# Altium schematic symbol library kmilo17pet-NSC_LDO.SchLib: 2675 symbols (part 19 of 65)
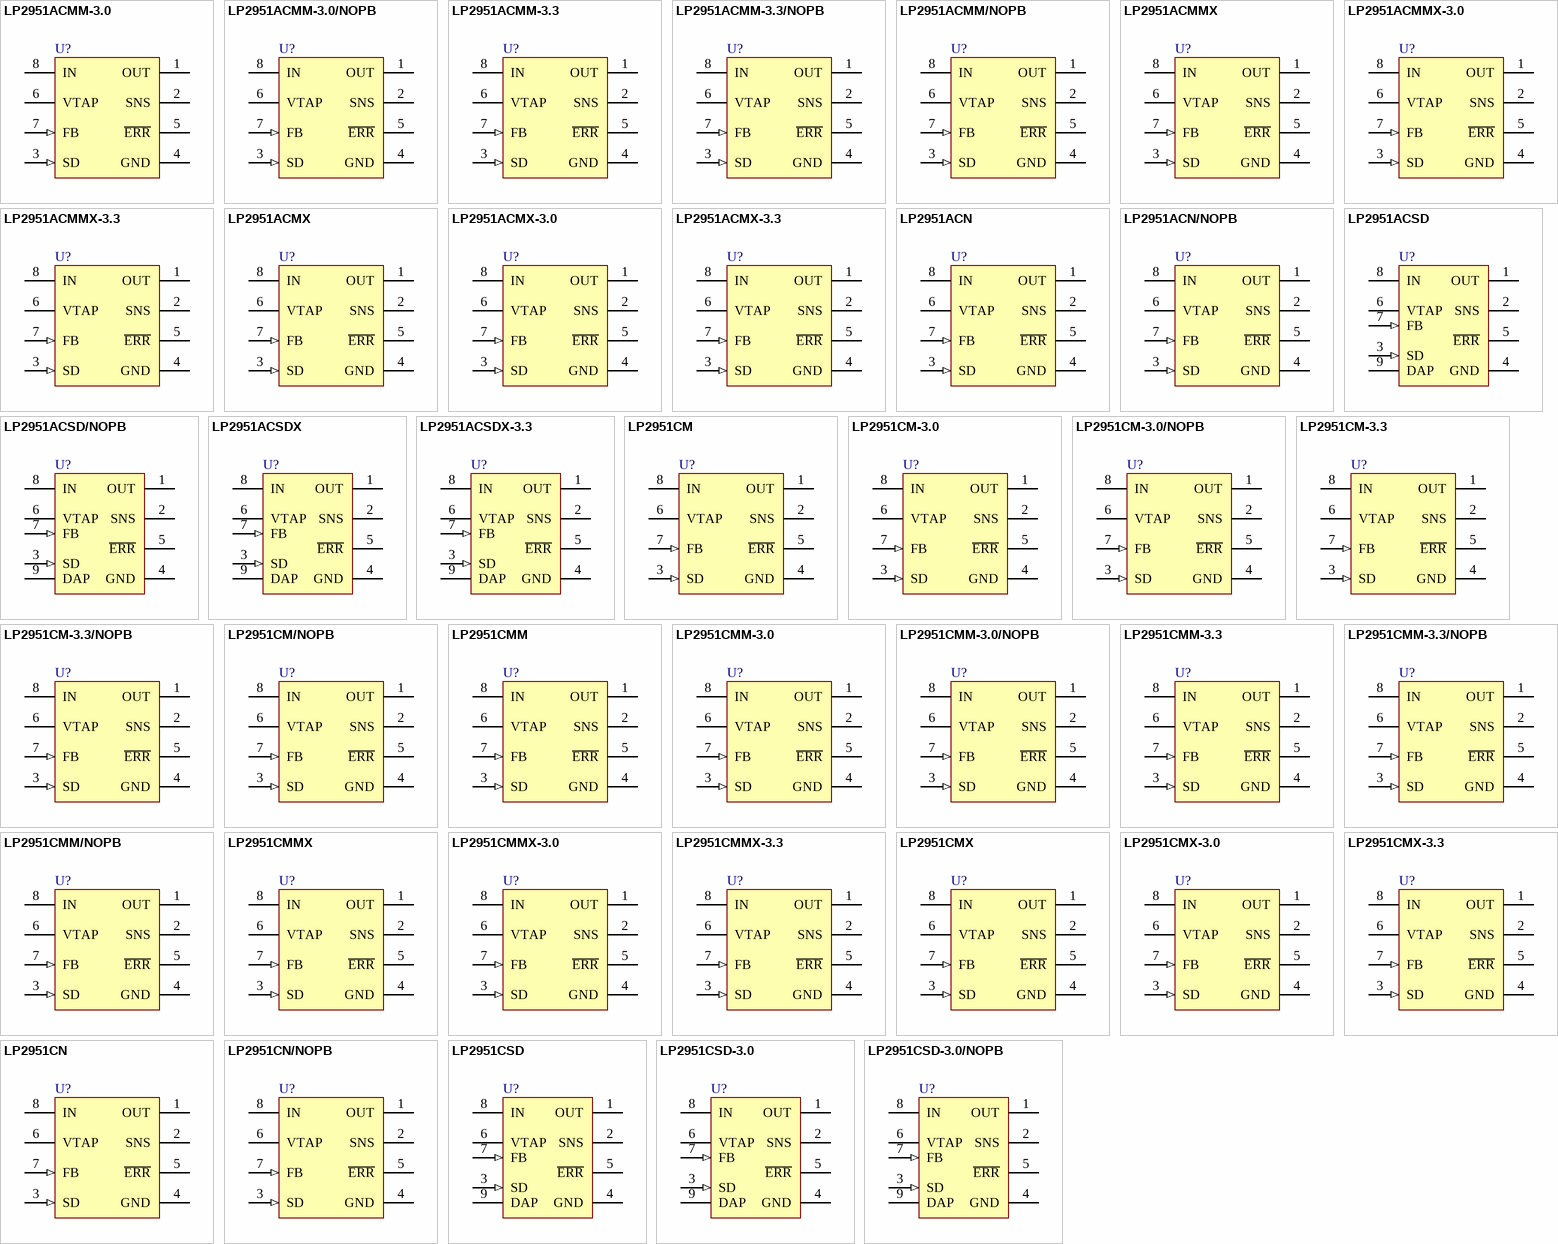
[diagram p85: symbols LP2951ACMM-3.0 to LP2951CSD-3.0/NOPB]

## LP2951CM-3.3/NOPB
designator U?
Series of Adjustable Micropower Voltage Regulators, 8-pin Narrow SOIC, Pb-Free; PartNumber: LP2951CM-3.3/NOPB; Manufacturer: National Semiconductor; PackageTopMarking: NSZXTT*2951C*M33DD; PowerWise: N; CompType: LDO IC; High-Reliability: Y; DatasheetVersion: Jun-2009; PackageVersion: revM, May-2009; PackageReference: M08A; PackageDescription: SOIC Narrow, 4.9 x 3.9 x 1.45mm, 8 Lead, 1.27mm Pitch; RoHS: Y; PinCount: 8; Code_JEDEC: MS-012-AA; Code_IPC: SOIC127P600-8; ComponentLink1Description: Manufacturer URL; ComponentLink1URL: http://www.national.com/; ComponentLink2Description: LP2951 Datasheet; ComponentLink2URL: http://www.national.com/ds/LP/LP2951.pdf; ComponentLink3Description: LP2951 Web Page; ComponentLink3URL: http://www.national.com/pf/LP/LP2951.html; ComponentLink4Description: M08A Package Page; ComponentLink4URL: http://www.national.com/packaging/folders/m08a.html
footprint M08A_N (SOIC, 8-Leads, Body 4.9x3.9mm, Pitch 1.27mm, IPC Medium Density)
footprint M08A_L (SOIC, 8-Leads, Body 4.9x3.9mm, Pitch 1.27mm, IPC High Density)
footprint M08A_M (SOIC, 8-Leads, Body 4.9x3.9mm, Pitch 1.27mm, IPC Low Density)
pins: 1 OUT (power), 2 SNS, 3 SD (in), 4 GND (power), 5 ~{ERR} (oc), 6 VTAP, 7 FB (in), 8 IN (power)

## LP2951CM/NOPB
designator U?
Series of Adjustable Micropower Voltage Regulators, 8-pin Narrow SOIC, Pb-Free; PartNumber: LP2951CM/NOPB; Manufacturer: National Semiconductor; PackageTopMarking: NSZXTT*2951*CMDD; PowerWise: N; CompType: LDO IC; High-Reliability: Y; DatasheetVersion: Jun-2009; PackageVersion: revM, May-2009; PackageReference: M08A; PackageDescription: SOIC Narrow, 4.9 x 3.9 x 1.45mm, 8 Lead, 1.27mm Pitch; RoHS: Y; PinCount: 8; Code_JEDEC: MS-012-AA; Code_IPC: SOIC127P600-8; ComponentLink1Description: Manufacturer URL; ComponentLink1URL: http://www.national.com/; ComponentLink2Description: LP2951 Datasheet; ComponentLink2URL: http://www.national.com/ds/LP/LP2951.pdf; ComponentLink3Description: LP2951 Web Page; ComponentLink3URL: http://www.national.com/pf/LP/LP2951.html; ComponentLink4Description: M08A Package Page; ComponentLink4URL: http://www.national.com/packaging/folders/m08a.html
footprint M08A_N (SOIC, 8-Leads, Body 4.9x3.9mm, Pitch 1.27mm, IPC Medium Density)
footprint M08A_L (SOIC, 8-Leads, Body 4.9x3.9mm, Pitch 1.27mm, IPC High Density)
footprint M08A_M (SOIC, 8-Leads, Body 4.9x3.9mm, Pitch 1.27mm, IPC Low Density)
pins: 1 OUT (power), 2 SNS, 3 SD (in), 4 GND (power), 5 ~{ERR} (oc), 6 VTAP, 7 FB (in), 8 IN (power)

## LP2951CMM
designator U?
Series of Adjustable Micropower Voltage Regulators, 8-pin Mini SOIC; PartNumber: LP2951CMM; Manufacturer: National Semiconductor; PackageTopMarking: ZXTT*L0DB; PowerWise: N; CompType: LDO IC; High-Reliability: Y; DatasheetVersion: Jun-2009; PackageVersion: revF, Apr-2008; PackageReference: MUA08A; PackageDescription: MINI SOIC, .118 x .118 x .034in, 8 Lead, .0256in Pitch; RoHS: N; PinCount: 8; Code_JEDEC: MO-187-AA; ComponentLink1Description: Manufacturer URL; ComponentLink1URL: http://www.national.com/; ComponentLink2Description: LP2951 Datasheet; ComponentLink2URL: http://www.national.com/ds/LP/LP2951.pdf; ComponentLink3Description: LP2951 Web Page; ComponentLink3URL: http://www.national.com/pf/LP/LP2951.html; ComponentLink4Description: MUA08A Package Page; ComponentLink4URL: http://www.national.com/packaging/folders/mua08a.html
footprint MUA08A_N (TSOP, 8-Leads, Body 3x3mm, Pitch 0.65mm, IPC Medium Density)
footprint MUA08A_L (TSOP, 8-Leads, Body 3x3mm, Pitch 0.65mm, IPC High Density)
footprint MUA08A_M (TSOP, 8-Leads, Body 3x3mm, Pitch 0.65mm, IPC Low Density)
pins: 1 OUT (power), 2 SNS, 3 SD (in), 4 GND (power), 5 ~{ERR} (oc), 6 VTAP, 7 FB (in), 8 IN (power)

## LP2951CMM-3.0
designator U?
Series of Adjustable Micropower Voltage Regulators, 8-pin Mini SOIC; PartNumber: LP2951CMM-3.0; Manufacturer: National Semiconductor; PackageTopMarking: ZXTT*L0BB; PowerWise: N; CompType: LDO IC; High-Reliability: Y; DatasheetVersion: Jun-2009; PackageVersion: revF, Apr-2008; PackageReference: MUA08A; PackageDescription: MINI SOIC, .118 x .118 x .034in, 8 Lead, .0256in Pitch; RoHS: N; PinCount: 8; Code_JEDEC: MO-187-AA; ComponentLink1Description: Manufacturer URL; ComponentLink1URL: http://www.national.com/; ComponentLink2Description: LP2951 Datasheet; ComponentLink2URL: http://www.national.com/ds/LP/LP2951.pdf; ComponentLink3Description: LP2951 Web Page; ComponentLink3URL: http://www.national.com/pf/LP/LP2951.html; ComponentLink4Description: MUA08A Package Page; ComponentLink4URL: http://www.national.com/packaging/folders/mua08a.html
footprint MUA08A_N (TSOP, 8-Leads, Body 3x3mm, Pitch 0.65mm, IPC Medium Density)
footprint MUA08A_L (TSOP, 8-Leads, Body 3x3mm, Pitch 0.65mm, IPC High Density)
footprint MUA08A_M (TSOP, 8-Leads, Body 3x3mm, Pitch 0.65mm, IPC Low Density)
pins: 1 OUT (power), 2 SNS, 3 SD (in), 4 GND (power), 5 ~{ERR} (oc), 6 VTAP, 7 FB (in), 8 IN (power)

## LP2951CMM-3.0/NOPB
designator U?
Series of Adjustable Micropower Voltage Regulators, 8-pin Mini SOIC, Pb-Free; PartNumber: LP2951CMM-3.0/NOPB; Manufacturer: National Semiconductor; PackageTopMarking: ZXTT*L0BB; PowerWise: N; CompType: LDO IC; High-Reliability: Y; DatasheetVersion: Jun-2009; PackageVersion: revF, Apr-2008; PackageReference: MUA08A; PackageDescription: MINI SOIC, .118 x .118 x .034in, 8 Lead, .0256in Pitch; RoHS: Y; PinCount: 8; Code_JEDEC: MO-187-AA; ComponentLink1Description: Manufacturer URL; ComponentLink1URL: http://www.national.com/; ComponentLink2Description: LP2951 Datasheet; ComponentLink2URL: http://www.national.com/ds/LP/LP2951.pdf; ComponentLink3Description: LP2951 Web Page; ComponentLink3URL: http://www.national.com/pf/LP/LP2951.html; ComponentLink4Description: MUA08A Package Page; ComponentLink4URL: http://www.national.com/packaging/folders/mua08a.html
footprint MUA08A_N (TSOP, 8-Leads, Body 3x3mm, Pitch 0.65mm, IPC Medium Density)
footprint MUA08A_L (TSOP, 8-Leads, Body 3x3mm, Pitch 0.65mm, IPC High Density)
footprint MUA08A_M (TSOP, 8-Leads, Body 3x3mm, Pitch 0.65mm, IPC Low Density)
pins: 1 OUT (power), 2 SNS, 3 SD (in), 4 GND (power), 5 ~{ERR} (oc), 6 VTAP, 7 FB (in), 8 IN (power)

## LP2951CMM-3.3
designator U?
Series of Adjustable Micropower Voltage Regulators, 8-pin Mini SOIC; PartNumber: LP2951CMM-3.3; Manufacturer: National Semiconductor; PackageTopMarking: ZXTT*L0CB; PowerWise: N; CompType: LDO IC; High-Reliability: Y; DatasheetVersion: Jun-2009; PackageVersion: revF, Apr-2008; PackageReference: MUA08A; PackageDescription: MINI SOIC, .118 x .118 x .034in, 8 Lead, .0256in Pitch; RoHS: N; PinCount: 8; Code_JEDEC: MO-187-AA; ComponentLink1Description: Manufacturer URL; ComponentLink1URL: http://www.national.com/; ComponentLink2Description: LP2951 Datasheet; ComponentLink2URL: http://www.national.com/ds/LP/LP2951.pdf; ComponentLink3Description: LP2951 Web Page; ComponentLink3URL: http://www.national.com/pf/LP/LP2951.html; ComponentLink4Description: MUA08A Package Page; ComponentLink4URL: http://www.national.com/packaging/folders/mua08a.html
footprint MUA08A_N (TSOP, 8-Leads, Body 3x3mm, Pitch 0.65mm, IPC Medium Density)
footprint MUA08A_L (TSOP, 8-Leads, Body 3x3mm, Pitch 0.65mm, IPC High Density)
footprint MUA08A_M (TSOP, 8-Leads, Body 3x3mm, Pitch 0.65mm, IPC Low Density)
pins: 1 OUT (power), 2 SNS, 3 SD (in), 4 GND (power), 5 ~{ERR} (oc), 6 VTAP, 7 FB (in), 8 IN (power)

## LP2951CMM-3.3/NOPB
designator U?
Series of Adjustable Micropower Voltage Regulators, 8-pin Mini SOIC, Pb-Free; PartNumber: LP2951CMM-3.3/NOPB; Manufacturer: National Semiconductor; PackageTopMarking: ZXTT*L0CB; PowerWise: N; CompType: LDO IC; High-Reliability: Y; DatasheetVersion: Jun-2009; PackageVersion: revF, Apr-2008; PackageReference: MUA08A; PackageDescription: MINI SOIC, .118 x .118 x .034in, 8 Lead, .0256in Pitch; RoHS: Y; PinCount: 8; Code_JEDEC: MO-187-AA; ComponentLink1Description: Manufacturer URL; ComponentLink1URL: http://www.national.com/; ComponentLink2Description: LP2951 Datasheet; ComponentLink2URL: http://www.national.com/ds/LP/LP2951.pdf; ComponentLink3Description: LP2951 Web Page; ComponentLink3URL: http://www.national.com/pf/LP/LP2951.html; ComponentLink4Description: MUA08A Package Page; ComponentLink4URL: http://www.national.com/packaging/folders/mua08a.html
footprint MUA08A_N (TSOP, 8-Leads, Body 3x3mm, Pitch 0.65mm, IPC Medium Density)
footprint MUA08A_L (TSOP, 8-Leads, Body 3x3mm, Pitch 0.65mm, IPC High Density)
footprint MUA08A_M (TSOP, 8-Leads, Body 3x3mm, Pitch 0.65mm, IPC Low Density)
pins: 1 OUT (power), 2 SNS, 3 SD (in), 4 GND (power), 5 ~{ERR} (oc), 6 VTAP, 7 FB (in), 8 IN (power)

## LP2951CMM/NOPB
designator U?
Series of Adjustable Micropower Voltage Regulators, 8-pin Mini SOIC, Pb-Free; PartNumber: LP2951CMM/NOPB; Manufacturer: National Semiconductor; PackageTopMarking: ZXTT*L0DB; PowerWise: N; CompType: LDO IC; High-Reliability: Y; DatasheetVersion: Jun-2009; PackageVersion: revF, Apr-2008; PackageReference: MUA08A; PackageDescription: MINI SOIC, .118 x .118 x .034in, 8 Lead, .0256in Pitch; RoHS: Y; PinCount: 8; Code_JEDEC: MO-187-AA; ComponentLink1Description: Manufacturer URL; ComponentLink1URL: http://www.national.com/; ComponentLink2Description: LP2951 Datasheet; ComponentLink2URL: http://www.national.com/ds/LP/LP2951.pdf; ComponentLink3Description: LP2951 Web Page; ComponentLink3URL: http://www.national.com/pf/LP/LP2951.html; ComponentLink4Description: MUA08A Package Page; ComponentLink4URL: http://www.national.com/packaging/folders/mua08a.html
footprint MUA08A_N (TSOP, 8-Leads, Body 3x3mm, Pitch 0.65mm, IPC Medium Density)
footprint MUA08A_L (TSOP, 8-Leads, Body 3x3mm, Pitch 0.65mm, IPC High Density)
footprint MUA08A_M (TSOP, 8-Leads, Body 3x3mm, Pitch 0.65mm, IPC Low Density)
pins: 1 OUT (power), 2 SNS, 3 SD (in), 4 GND (power), 5 ~{ERR} (oc), 6 VTAP, 7 FB (in), 8 IN (power)

## LP2951CMMX
designator U?
Series of Adjustable Micropower Voltage Regulators, 8-pin Mini SOIC; PartNumber: LP2951CMMX; Manufacturer: National Semiconductor; PackageTopMarking: ZXTT*L0DB; PowerWise: N; CompType: LDO IC; High-Reliability: Y; DatasheetVersion: Jun-2009; PackageVersion: revF, Apr-2008; PackageReference: MUA08A; PackageDescription: MINI SOIC, .118 x .118 x .034in, 8 Lead, .0256in Pitch; RoHS: N; PinCount: 8; Code_JEDEC: MO-187-AA; ComponentLink1Description: Manufacturer URL; ComponentLink1URL: http://www.national.com/; ComponentLink2Description: LP2951 Datasheet; ComponentLink2URL: http://www.national.com/ds/LP/LP2951.pdf; ComponentLink3Description: LP2951 Web Page; ComponentLink3URL: http://www.national.com/pf/LP/LP2951.html; ComponentLink4Description: MUA08A Package Page; ComponentLink4URL: http://www.national.com/packaging/folders/mua08a.html
footprint MUA08A_N (TSOP, 8-Leads, Body 3x3mm, Pitch 0.65mm, IPC Medium Density)
footprint MUA08A_L (TSOP, 8-Leads, Body 3x3mm, Pitch 0.65mm, IPC High Density)
footprint MUA08A_M (TSOP, 8-Leads, Body 3x3mm, Pitch 0.65mm, IPC Low Density)
pins: 1 OUT (power), 2 SNS, 3 SD (in), 4 GND (power), 5 ~{ERR} (oc), 6 VTAP, 7 FB (in), 8 IN (power)

## LP2951CMMX-3.0
designator U?
Series of Adjustable Micropower Voltage Regulators, 8-pin Mini SOIC; PartNumber: LP2951CMMX-3.0; Manufacturer: National Semiconductor; PackageTopMarking: ZXTT*L0BB; PowerWise: N; CompType: LDO IC; High-Reliability: Y; DatasheetVersion: Jun-2009; PackageVersion: revF, Apr-2008; PackageReference: MUA08A; PackageDescription: MINI SOIC, .118 x .118 x .034in, 8 Lead, .0256in Pitch; RoHS: N; PinCount: 8; Code_JEDEC: MO-187-AA; ComponentLink1Description: Manufacturer URL; ComponentLink1URL: http://www.national.com/; ComponentLink2Description: LP2951 Datasheet; ComponentLink2URL: http://www.national.com/ds/LP/LP2951.pdf; ComponentLink3Description: LP2951 Web Page; ComponentLink3URL: http://www.national.com/pf/LP/LP2951.html; ComponentLink4Description: MUA08A Package Page; ComponentLink4URL: http://www.national.com/packaging/folders/mua08a.html
footprint MUA08A_N (TSOP, 8-Leads, Body 3x3mm, Pitch 0.65mm, IPC Medium Density)
footprint MUA08A_L (TSOP, 8-Leads, Body 3x3mm, Pitch 0.65mm, IPC High Density)
footprint MUA08A_M (TSOP, 8-Leads, Body 3x3mm, Pitch 0.65mm, IPC Low Density)
pins: 1 OUT (power), 2 SNS, 3 SD (in), 4 GND (power), 5 ~{ERR} (oc), 6 VTAP, 7 FB (in), 8 IN (power)

## LP2951CMMX-3.3
designator U?
Series of Adjustable Micropower Voltage Regulators, 8-pin Mini SOIC; PartNumber: LP2951CMMX-3.3; Manufacturer: National Semiconductor; PackageTopMarking: ZXTT*L0CB; PowerWise: N; CompType: LDO IC; High-Reliability: Y; DatasheetVersion: Jun-2009; PackageVersion: revF, Apr-2008; PackageReference: MUA08A; PackageDescription: MINI SOIC, .118 x .118 x .034in, 8 Lead, .0256in Pitch; RoHS: N; PinCount: 8; Code_JEDEC: MO-187-AA; ComponentLink1Description: Manufacturer URL; ComponentLink1URL: http://www.national.com/; ComponentLink2Description: LP2951 Datasheet; ComponentLink2URL: http://www.national.com/ds/LP/LP2951.pdf; ComponentLink3Description: LP2951 Web Page; ComponentLink3URL: http://www.national.com/pf/LP/LP2951.html; ComponentLink4Description: MUA08A Package Page; ComponentLink4URL: http://www.national.com/packaging/folders/mua08a.html
footprint MUA08A_N (TSOP, 8-Leads, Body 3x3mm, Pitch 0.65mm, IPC Medium Density)
footprint MUA08A_L (TSOP, 8-Leads, Body 3x3mm, Pitch 0.65mm, IPC High Density)
footprint MUA08A_M (TSOP, 8-Leads, Body 3x3mm, Pitch 0.65mm, IPC Low Density)
pins: 1 OUT (power), 2 SNS, 3 SD (in), 4 GND (power), 5 ~{ERR} (oc), 6 VTAP, 7 FB (in), 8 IN (power)

## LP2951CMX
designator U?
Series of Adjustable Micropower Voltage Regulators, 8-pin Narrow SOIC; PartNumber: LP2951CMX; Manufacturer: National Semiconductor; PackageTopMarking: NSZXTT*2951*CMDD; PowerWise: N; CompType: LDO IC; High-Reliability: Y; DatasheetVersion: Jun-2009; PackageVersion: revM, May-2009; PackageReference: M08A; PackageDescription: SOIC Narrow, 4.9 x 3.9 x 1.45mm, 8 Lead, 1.27mm Pitch; RoHS: N; PinCount: 8; Code_JEDEC: MS-012-AA; Code_IPC: SOIC127P600-8; ComponentLink1Description: Manufacturer URL; ComponentLink1URL: http://www.national.com/; ComponentLink2Description: LP2951 Datasheet; ComponentLink2URL: http://www.national.com/ds/LP/LP2951.pdf; ComponentLink3Description: LP2951 Web Page; ComponentLink3URL: http://www.national.com/pf/LP/LP2951.html; ComponentLink4Description: M08A Package Page; ComponentLink4URL: http://www.national.com/packaging/folders/m08a.html
footprint M08A_N (SOIC, 8-Leads, Body 4.9x3.9mm, Pitch 1.27mm, IPC Medium Density)
footprint M08A_L (SOIC, 8-Leads, Body 4.9x3.9mm, Pitch 1.27mm, IPC High Density)
footprint M08A_M (SOIC, 8-Leads, Body 4.9x3.9mm, Pitch 1.27mm, IPC Low Density)
pins: 1 OUT (power), 2 SNS, 3 SD (in), 4 GND (power), 5 ~{ERR} (oc), 6 VTAP, 7 FB (in), 8 IN (power)

## LP2951CMX-3.0
designator U?
Series of Adjustable Micropower Voltage Regulators, 8-pin Narrow SOIC; PartNumber: LP2951CMX-3.0; Manufacturer: National Semiconductor; PackageTopMarking: NSZXTT*2951C*M30DD; PowerWise: N; CompType: LDO IC; High-Reliability: Y; DatasheetVersion: Jun-2009; PackageVersion: revM, May-2009; PackageReference: M08A; PackageDescription: SOIC Narrow, 4.9 x 3.9 x 1.45mm, 8 Lead, 1.27mm Pitch; RoHS: N; PinCount: 8; Code_JEDEC: MS-012-AA; Code_IPC: SOIC127P600-8; ComponentLink1Description: Manufacturer URL; ComponentLink1URL: http://www.national.com/; ComponentLink2Description: LP2951 Datasheet; ComponentLink2URL: http://www.national.com/ds/LP/LP2951.pdf; ComponentLink3Description: LP2951 Web Page; ComponentLink3URL: http://www.national.com/pf/LP/LP2951.html; ComponentLink4Description: M08A Package Page; ComponentLink4URL: http://www.national.com/packaging/folders/m08a.html
footprint M08A_N (SOIC, 8-Leads, Body 4.9x3.9mm, Pitch 1.27mm, IPC Medium Density)
footprint M08A_L (SOIC, 8-Leads, Body 4.9x3.9mm, Pitch 1.27mm, IPC High Density)
footprint M08A_M (SOIC, 8-Leads, Body 4.9x3.9mm, Pitch 1.27mm, IPC Low Density)
pins: 1 OUT (power), 2 SNS, 3 SD (in), 4 GND (power), 5 ~{ERR} (oc), 6 VTAP, 7 FB (in), 8 IN (power)

## LP2951CMX-3.3
designator U?
Series of Adjustable Micropower Voltage Regulators, 8-pin Narrow SOIC; PartNumber: LP2951CMX-3.3; Manufacturer: National Semiconductor; PackageTopMarking: NSZXTT*2951C*M33DD; PowerWise: N; CompType: LDO IC; High-Reliability: Y; DatasheetVersion: Jun-2009; PackageVersion: revM, May-2009; PackageReference: M08A; PackageDescription: SOIC Narrow, 4.9 x 3.9 x 1.45mm, 8 Lead, 1.27mm Pitch; RoHS: N; PinCount: 8; Code_JEDEC: MS-012-AA; Code_IPC: SOIC127P600-8; ComponentLink1Description: Manufacturer URL; ComponentLink1URL: http://www.national.com/; ComponentLink2Description: LP2951 Datasheet; ComponentLink2URL: http://www.national.com/ds/LP/LP2951.pdf; ComponentLink3Description: LP2951 Web Page; ComponentLink3URL: http://www.national.com/pf/LP/LP2951.html; ComponentLink4Description: M08A Package Page; ComponentLink4URL: http://www.national.com/packaging/folders/m08a.html
footprint M08A_N (SOIC, 8-Leads, Body 4.9x3.9mm, Pitch 1.27mm, IPC Medium Density)
footprint M08A_L (SOIC, 8-Leads, Body 4.9x3.9mm, Pitch 1.27mm, IPC High Density)
footprint M08A_M (SOIC, 8-Leads, Body 4.9x3.9mm, Pitch 1.27mm, IPC Low Density)
pins: 1 OUT (power), 2 SNS, 3 SD (in), 4 GND (power), 5 ~{ERR} (oc), 6 VTAP, 7 FB (in), 8 IN (power)

## LP2951CN
designator U?
Series of Adjustable Micropower Voltage Regulators, 8-pin MDIP; PartNumber: LP2951CN; Manufacturer: National Semiconductor; PackageTopMarking: NSUZXYTTE#*LP*2951CN; PowerWise: N; CompType: LDO IC; High-Reliability: Y; DatasheetVersion: Jun-2009; PackageVersion: revG, May-2006; PackageReference: N08E; PackageDescription: MDIP, .365 x .250 x .130in, 8 Lead, .100in Pitch; RoHS: N; PinCount: 8; Code_JEDEC: MS-001-BA; ComponentLink1Description: Manufacturer URL; ComponentLink1URL: http://www.national.com/; ComponentLink2Description: LP2951 Datasheet; ComponentLink2URL: http://www.national.com/ds/LP/LP2951.pdf; ComponentLink3Description: LP2951 Web Page; ComponentLink3URL: http://www.national.com/pf/LP/LP2951.html; ComponentLink4Description: N08E Package Page; ComponentLink4URL: http://www.national.com/packaging/folders/n08e.html
footprint N08E (DIP, 8-Leads, Row Spacing 7.62mm, Pitch 2.54mm, Body 9.91x6.35mm)
pins: 1 OUT (power), 2 SNS, 3 SD (in), 4 GND (power), 5 ~{ERR} (oc), 6 VTAP, 7 FB (in), 8 IN (power)

## LP2951CN/NOPB
designator U?
Series of Adjustable Micropower Voltage Regulators, 8-pin MDIP, Pb-Free; PartNumber: LP2951CN/NOPB; Manufacturer: National Semiconductor; PackageTopMarking: NSUZXYTTE#*LP*2951CN; PowerWise: N; CompType: LDO IC; High-Reliability: Y; DatasheetVersion: Jun-2009; PackageVersion: revG, May-2006; PackageReference: N08E; PackageDescription: MDIP, .365 x .250 x .130in, 8 Lead, .100in Pitch; RoHS: Y; PinCount: 8; Code_JEDEC: MS-001-BA; ComponentLink1Description: Manufacturer URL; ComponentLink1URL: http://www.national.com/; ComponentLink2Description: LP2951 Datasheet; ComponentLink2URL: http://www.national.com/ds/LP/LP2951.pdf; ComponentLink3Description: LP2951 Web Page; ComponentLink3URL: http://www.national.com/pf/LP/LP2951.html; ComponentLink4Description: N08E Package Page; ComponentLink4URL: http://www.national.com/packaging/folders/n08e.html
footprint N08E (DIP, 8-Leads, Row Spacing 7.62mm, Pitch 2.54mm, Body 9.91x6.35mm)
pins: 1 OUT (power), 2 SNS, 3 SD (in), 4 GND (power), 5 ~{ERR} (oc), 6 VTAP, 7 FB (in), 8 IN (power)

## LP2951CSD
designator U?
Series of Adjustable Micropower Voltage Regulators, 8-pin LLP; PartNumber: LP2951CSD; Manufacturer: National Semiconductor; PackageTopMarking: NS*UZXYTT*2951ACB; PowerWise: N; CompType: LDO IC; High-Reliability: Y; DatasheetVersion: Jun-2009; PackageVersion: revA, Jun-2003; PackageReference: SDC08A; PackageDescription: LLP, Plastic, Dual, 4 x 4 x 0.8mm Body, 8 Lead, 0.8mm Pitch, No Pullback; RoHS: N; PinCount: 8; ComponentLink1Description: Manufacturer URL; ComponentLink1URL: http://www.national.com/; ComponentLink2Description: LP2951 Datasheet; ComponentLink2URL: http://www.national.com/ds/LP/LP2951.pdf; ComponentLink3Description: LP2951 Web Page; ComponentLink3URL: http://www.national.com/pf/LP/LP2951.html; ComponentLink4Description: SDC08A Package Page; ComponentLink4URL: http://www.national.com/packaging/folders/sdc08a.html
footprint SDC08A (SON, 8-Leads, Body 4x4mm, Pitch 0.8mm, NSC Recommended)
pins: 1 OUT (power), 2 SNS, 3 SD (in), 4 GND (power), 5 ~{ERR} (oc), 6 VTAP, 7 FB (in), 8 IN (power), 9 DAP (power)

## LP2951CSD-3.0
designator U?
Series of Adjustable Micropower Voltage Regulators, 8-pin LLP; PartNumber: LP2951CSD-3.0; Manufacturer: National Semiconductor; PackageTopMarking: NS*UZXYTT*51AC30B; PowerWise: N; CompType: LDO IC; High-Reliability: Y; DatasheetVersion: Jun-2009; PackageVersion: revA, Jun-2003; PackageReference: SDC08A; PackageDescription: LLP, Plastic, Dual, 4 x 4 x 0.8mm Body, 8 Lead, 0.8mm Pitch, No Pullback; RoHS: N; PinCount: 8; ComponentLink1Description: Manufacturer URL; ComponentLink1URL: http://www.national.com/; ComponentLink2Description: LP2951 Datasheet; ComponentLink2URL: http://www.national.com/ds/LP/LP2951.pdf; ComponentLink3Description: LP2951 Web Page; ComponentLink3URL: http://www.national.com/pf/LP/LP2951.html; ComponentLink4Description: SDC08A Package Page; ComponentLink4URL: http://www.national.com/packaging/folders/sdc08a.html
footprint SDC08A (SON, 8-Leads, Body 4x4mm, Pitch 0.8mm, NSC Recommended)
pins: 1 OUT (power), 2 SNS, 3 SD (in), 4 GND (power), 5 ~{ERR} (oc), 6 VTAP, 7 FB (in), 8 IN (power), 9 DAP (power)

## LP2951CSD-3.0/NOPB
designator U?
Series of Adjustable Micropower Voltage Regulators, 8-pin LLP, Pb-Free; PartNumber: LP2951CSD-3.0/NOPB; Manufacturer: National Semiconductor; PackageTopMarking: NS*UZXYTT*51AC30B; PowerWise: N; CompType: LDO IC; High-Reliability: Y; DatasheetVersion: Jun-2009; PackageVersion: revA, Jun-2003; PackageReference: SDC08A; PackageDescription: LLP, Plastic, Dual, 4 x 4 x 0.8mm Body, 8 Lead, 0.8mm Pitch, No Pullback; RoHS: Y; PinCount: 8; ComponentLink1Description: Manufacturer URL; ComponentLink1URL: http://www.national.com/; ComponentLink2Description: LP2951 Datasheet; ComponentLink2URL: http://www.national.com/ds/LP/LP2951.pdf; ComponentLink3Description: LP2951 Web Page; ComponentLink3URL: http://www.national.com/pf/LP/LP2951.html; ComponentLink4Description: SDC08A Package Page; ComponentLink4URL: http://www.national.com/packaging/folders/sdc08a.html
footprint SDC08A (SON, 8-Leads, Body 4x4mm, Pitch 0.8mm, NSC Recommended)
pins: 1 OUT (power), 2 SNS, 3 SD (in), 4 GND (power), 5 ~{ERR} (oc), 6 VTAP, 7 FB (in), 8 IN (power), 9 DAP (power)

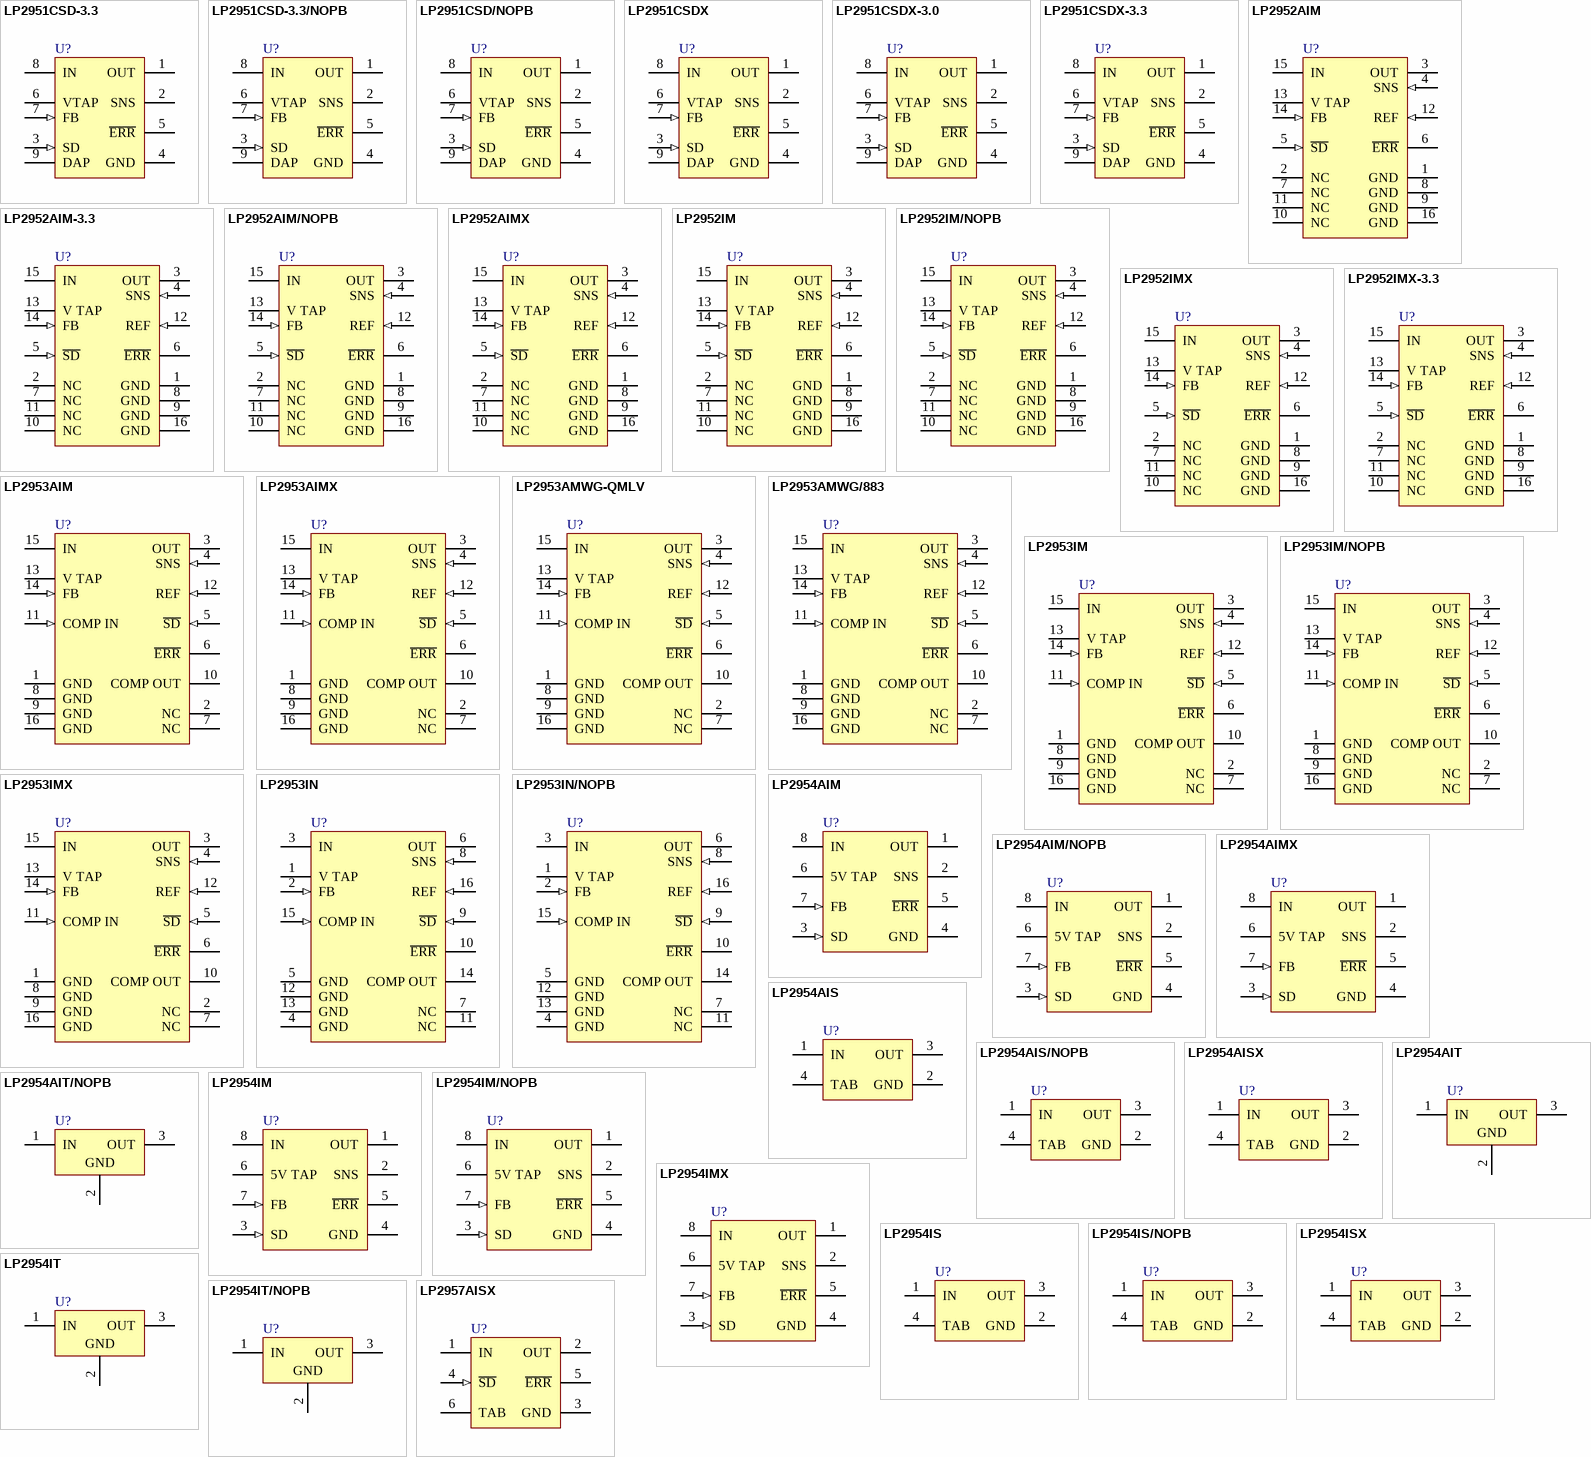
[diagram p20: symbols LP2951CSD-3.3 to LP2957AISX]

## LP2951CSD-3.3
designator U?
Series of Adjustable Micropower Voltage Regulators, 8-pin LLP; PartNumber: LP2951CSD-3.3; Manufacturer: National Semiconductor; PackageTopMarking: NS*UZXYTT*51AC33B; PowerWise: N; CompType: LDO IC; High-Reliability: Y; DatasheetVersion: Jun-2009; PackageVersion: revA, Jun-2003; PackageReference: SDC08A; PackageDescription: LLP, Plastic, Dual, 4 x 4 x 0.8mm Body, 8 Lead, 0.8mm Pitch, No Pullback; RoHS: N; PinCount: 8; ComponentLink1Description: Manufacturer URL; ComponentLink1URL: http://www.national.com/; ComponentLink2Description: LP2951 Datasheet; ComponentLink2URL: http://www.national.com/ds/LP/LP2951.pdf; ComponentLink3Description: LP2951 Web Page; ComponentLink3URL: http://www.national.com/pf/LP/LP2951.html; ComponentLink4Description: SDC08A Package Page; ComponentLink4URL: http://www.national.com/packaging/folders/sdc08a.html
footprint SDC08A (SON, 8-Leads, Body 4x4mm, Pitch 0.8mm, NSC Recommended)
pins: 1 OUT (power), 2 SNS, 3 SD (in), 4 GND (power), 5 ~{ERR} (oc), 6 VTAP, 7 FB (in), 8 IN (power), 9 DAP (power)

## LP2951CSD-3.3/NOPB
designator U?
Series of Adjustable Micropower Voltage Regulators, 8-pin LLP, Pb-Free; PartNumber: LP2951CSD-3.3/NOPB; Manufacturer: National Semiconductor; PackageTopMarking: NS*UZXYTT*51AC33B; PowerWise: N; CompType: LDO IC; High-Reliability: Y; DatasheetVersion: Jun-2009; PackageVersion: revA, Jun-2003; PackageReference: SDC08A; PackageDescription: LLP, Plastic, Dual, 4 x 4 x 0.8mm Body, 8 Lead, 0.8mm Pitch, No Pullback; RoHS: Y; PinCount: 8; ComponentLink1Description: Manufacturer URL; ComponentLink1URL: http://www.national.com/; ComponentLink2Description: LP2951 Datasheet; ComponentLink2URL: http://www.national.com/ds/LP/LP2951.pdf; ComponentLink3Description: LP2951 Web Page; ComponentLink3URL: http://www.national.com/pf/LP/LP2951.html; ComponentLink4Description: SDC08A Package Page; ComponentLink4URL: http://www.national.com/packaging/folders/sdc08a.html
footprint SDC08A (SON, 8-Leads, Body 4x4mm, Pitch 0.8mm, NSC Recommended)
pins: 1 OUT (power), 2 SNS, 3 SD (in), 4 GND (power), 5 ~{ERR} (oc), 6 VTAP, 7 FB (in), 8 IN (power), 9 DAP (power)

## LP2951CSD/NOPB
designator U?
Series of Adjustable Micropower Voltage Regulators, 8-pin LLP, Pb-Free; PartNumber: LP2951CSD/NOPB; Manufacturer: National Semiconductor; PackageTopMarking: NS*UZXYTT*2951ACB; PowerWise: N; CompType: LDO IC; High-Reliability: Y; DatasheetVersion: Jun-2009; PackageVersion: revA, Jun-2003; PackageReference: SDC08A; PackageDescription: LLP, Plastic, Dual, 4 x 4 x 0.8mm Body, 8 Lead, 0.8mm Pitch, No Pullback; RoHS: Y; PinCount: 8; ComponentLink1Description: Manufacturer URL; ComponentLink1URL: http://www.national.com/; ComponentLink2Description: LP2951 Datasheet; ComponentLink2URL: http://www.national.com/ds/LP/LP2951.pdf; ComponentLink3Description: LP2951 Web Page; ComponentLink3URL: http://www.national.com/pf/LP/LP2951.html; ComponentLink4Description: SDC08A Package Page; ComponentLink4URL: http://www.national.com/packaging/folders/sdc08a.html
footprint SDC08A (SON, 8-Leads, Body 4x4mm, Pitch 0.8mm, NSC Recommended)
pins: 1 OUT (power), 2 SNS, 3 SD (in), 4 GND (power), 5 ~{ERR} (oc), 6 VTAP, 7 FB (in), 8 IN (power), 9 DAP (power)

## LP2951CSDX
designator U?
Series of Adjustable Micropower Voltage Regulators, 8-pin LLP; PartNumber: LP2951CSDX; Manufacturer: National Semiconductor; PackageTopMarking: NS*UZXYTT*2951ACB; PowerWise: N; CompType: LDO IC; High-Reliability: Y; DatasheetVersion: Jun-2009; PackageVersion: revA, Jun-2003; PackageReference: SDC08A; PackageDescription: LLP, Plastic, Dual, 4 x 4 x 0.8mm Body, 8 Lead, 0.8mm Pitch, No Pullback; RoHS: N; PinCount: 8; ComponentLink1Description: Manufacturer URL; ComponentLink1URL: http://www.national.com/; ComponentLink2Description: LP2951 Datasheet; ComponentLink2URL: http://www.national.com/ds/LP/LP2951.pdf; ComponentLink3Description: LP2951 Web Page; ComponentLink3URL: http://www.national.com/pf/LP/LP2951.html; ComponentLink4Description: SDC08A Package Page; ComponentLink4URL: http://www.national.com/packaging/folders/sdc08a.html
footprint SDC08A (SON, 8-Leads, Body 4x4mm, Pitch 0.8mm, NSC Recommended)
pins: 1 OUT (power), 2 SNS, 3 SD (in), 4 GND (power), 5 ~{ERR} (oc), 6 VTAP, 7 FB (in), 8 IN (power), 9 DAP (power)

## LP2951CSDX-3.0
designator U?
Series of Adjustable Micropower Voltage Regulators, 8-pin LLP; PartNumber: LP2951CSDX-3.0; Manufacturer: National Semiconductor; PackageTopMarking: NS*UZXYTT*51AC30B; PowerWise: N; CompType: LDO IC; High-Reliability: Y; DatasheetVersion: Jun-2009; PackageVersion: revA, Jun-2003; PackageReference: SDC08A; PackageDescription: LLP, Plastic, Dual, 4 x 4 x 0.8mm Body, 8 Lead, 0.8mm Pitch, No Pullback; RoHS: N; PinCount: 8; ComponentLink1Description: Manufacturer URL; ComponentLink1URL: http://www.national.com/; ComponentLink2Description: LP2951 Datasheet; ComponentLink2URL: http://www.national.com/ds/LP/LP2951.pdf; ComponentLink3Description: LP2951 Web Page; ComponentLink3URL: http://www.national.com/pf/LP/LP2951.html; ComponentLink4Description: SDC08A Package Page; ComponentLink4URL: http://www.national.com/packaging/folders/sdc08a.html
footprint SDC08A (SON, 8-Leads, Body 4x4mm, Pitch 0.8mm, NSC Recommended)
pins: 1 OUT (power), 2 SNS, 3 SD (in), 4 GND (power), 5 ~{ERR} (oc), 6 VTAP, 7 FB (in), 8 IN (power), 9 DAP (power)

## LP2951CSDX-3.3
designator U?
Series of Adjustable Micropower Voltage Regulators, 8-pin LLP; PartNumber: LP2951CSDX-3.3; Manufacturer: National Semiconductor; PackageTopMarking: NS*UZXYTT*51AC33B; PowerWise: N; CompType: LDO IC; High-Reliability: Y; DatasheetVersion: Jun-2009; PackageVersion: revA, Jun-2003; PackageReference: SDC08A; PackageDescription: LLP, Plastic, Dual, 4 x 4 x 0.8mm Body, 8 Lead, 0.8mm Pitch, No Pullback; RoHS: N; PinCount: 8; ComponentLink1Description: Manufacturer URL; ComponentLink1URL: http://www.national.com/; ComponentLink2Description: LP2951 Datasheet; ComponentLink2URL: http://www.national.com/ds/LP/LP2951.pdf; ComponentLink3Description: LP2951 Web Page; ComponentLink3URL: http://www.national.com/pf/LP/LP2951.html; ComponentLink4Description: SDC08A Package Page; ComponentLink4URL: http://www.national.com/packaging/folders/sdc08a.html
footprint SDC08A (SON, 8-Leads, Body 4x4mm, Pitch 0.8mm, NSC Recommended)
pins: 1 OUT (power), 2 SNS, 3 SD (in), 4 GND (power), 5 ~{ERR} (oc), 6 VTAP, 7 FB (in), 8 IN (power), 9 DAP (power)

## LP2952AIM
designator U?
Adjustable Micropower Low-Dropout Voltage Regulator, 16-pin Narrow SOIC; PartNumber: LP2952AIM; Manufacturer: National Semiconductor; PackageTopMarking: NSUZXYTTE#*LP2952AIM; PowerWise: N; CompType: LDO IC; High-Reliability: Y; DatasheetVersion: Mar-2005; PackageVersion: revJ, Aug-1995; PackageReference: M16A; PackageDescription: Molded Package, SO, .150in Wide, 16 Lead; RoHS: N; PinCount: 16; Code_JEDEC: MS-012-AC; Code_IPC: SOIC127P600-16; ComponentLink1Description: Manufacturer URL; ComponentLink1URL: http://www.national.com/; ComponentLink2Description: LP2952A Datasheet; ComponentLink2URL: http://www.national.com/ds/LP/LP2952.pdf; ComponentLink3Description: LP2952A Web Page; ComponentLink3URL: http://www.national.com/pf/LP/LP2952A.html; ComponentLink4Description: M16A Package Page; ComponentLink4URL: http://www.national.com/packaging/folders/m16a.html
footprint M16A_N (SOIC, 16-Leads, Body 9.9x3.9mm, Pitch 1.27mm, IPC Medium Density)
footprint M16A_L (SOIC, 16-Leads, Body 9.9x3.9mm, Pitch 1.27mm, IPC High Density)
footprint M16A_M (SOIC, 16-Leads, Body 9.9x3.9mm, Pitch 1.27mm, IPC Low Density)
pins: 1 GND (power), 2 NC, 3 OUT (power), 4 SNS (in), 5 ~{SD} (in), 6 ~{ERR} (oc), 7 NC, 8 GND (power), 9 GND (power), 10 NC, 11 NC, 12 REF (in), 13 V TAP, 14 FB (in), 15 IN (power), 16 GND (power)

## LP2952AIM-3.3
designator U?
Adjustable Micropower Low-Dropout Voltage Regulator, 16-pin Narrow SOIC; PartNumber: LP2952AIM-3.3; Manufacturer: National Semiconductor; PackageTopMarking: NSUZXYTTE#*LP2952AIM*-3.3; PowerWise: N; CompType: LDO IC; High-Reliability: Y; DatasheetVersion: Mar-2005; PackageVersion: revJ, Aug-1995; PackageReference: M16A; PackageDescription: Molded Package, SO, .150in Wide, 16 Lead; RoHS: N; PinCount: 16; Code_JEDEC: MS-012-AC; Code_IPC: SOIC127P600-16; ComponentLink1Description: Manufacturer URL; ComponentLink1URL: http://www.national.com/; ComponentLink2Description: LP2952A Datasheet; ComponentLink2URL: http://www.national.com/ds/LP/LP2952.pdf; ComponentLink3Description: LP2952A Web Page; ComponentLink3URL: http://www.national.com/pf/LP/LP2952A.html; ComponentLink4Description: M16A Package Page; ComponentLink4URL: http://www.national.com/packaging/folders/m16a.html
footprint M16A_N (SOIC, 16-Leads, Body 9.9x3.9mm, Pitch 1.27mm, IPC Medium Density)
footprint M16A_L (SOIC, 16-Leads, Body 9.9x3.9mm, Pitch 1.27mm, IPC High Density)
footprint M16A_M (SOIC, 16-Leads, Body 9.9x3.9mm, Pitch 1.27mm, IPC Low Density)
pins: 1 GND (power), 2 NC, 3 OUT (power), 4 SNS (in), 5 ~{SD} (in), 6 ~{ERR} (oc), 7 NC, 8 GND (power), 9 GND (power), 10 NC, 11 NC, 12 REF (in), 13 V TAP, 14 FB (in), 15 IN (power), 16 GND (power)

## LP2952AIM/NOPB
designator U?
Adjustable Micropower Low-Dropout Voltage Regulator, 16-pin Narrow SOIC, Pb-Free; PartNumber: LP2952AIM/NOPB; Manufacturer: National Semiconductor; PackageTopMarking: NSUZXYTTE#*LP2952AIM; PowerWise: N; CompType: LDO IC; High-Reliability: Y; DatasheetVersion: Mar-2005; PackageVersion: revJ, Aug-1995; PackageReference: M16A; PackageDescription: Molded Package, SO, .150in Wide, 16 Lead; RoHS: Y; PinCount: 16; Code_JEDEC: MS-012-AC; Code_IPC: SOIC127P600-16; ComponentLink1Description: Manufacturer URL; ComponentLink1URL: http://www.national.com/; ComponentLink2Description: LP2952A Datasheet; ComponentLink2URL: http://www.national.com/ds/LP/LP2952.pdf; ComponentLink3Description: LP2952A Web Page; ComponentLink3URL: http://www.national.com/pf/LP/LP2952A.html; ComponentLink4Description: M16A Package Page; ComponentLink4URL: http://www.national.com/packaging/folders/m16a.html
footprint M16A_N (SOIC, 16-Leads, Body 9.9x3.9mm, Pitch 1.27mm, IPC Medium Density)
footprint M16A_L (SOIC, 16-Leads, Body 9.9x3.9mm, Pitch 1.27mm, IPC High Density)
footprint M16A_M (SOIC, 16-Leads, Body 9.9x3.9mm, Pitch 1.27mm, IPC Low Density)
pins: 1 GND (power), 2 NC, 3 OUT (power), 4 SNS (in), 5 ~{SD} (in), 6 ~{ERR} (oc), 7 NC, 8 GND (power), 9 GND (power), 10 NC, 11 NC, 12 REF (in), 13 V TAP, 14 FB (in), 15 IN (power), 16 GND (power)

## LP2952AIMX
designator U?
Adjustable Micropower Low-Dropout Voltage Regulator, 16-pin Narrow SOIC; PartNumber: LP2952AIMX; Manufacturer: National Semiconductor; PackageTopMarking: NSUZXYTTE#*LP2952AIM; PowerWise: N; CompType: LDO IC; High-Reliability: Y; DatasheetVersion: Mar-2005; PackageVersion: revJ, Aug-1995; PackageReference: M16A; PackageDescription: Molded Package, SO, .150in Wide, 16 Lead; RoHS: N; PinCount: 16; Code_JEDEC: MS-012-AC; Code_IPC: SOIC127P600-16; ComponentLink1Description: Manufacturer URL; ComponentLink1URL: http://www.national.com/; ComponentLink2Description: LP2952A Datasheet; ComponentLink2URL: http://www.national.com/ds/LP/LP2952.pdf; ComponentLink3Description: LP2952A Web Page; ComponentLink3URL: http://www.national.com/pf/LP/LP2952A.html; ComponentLink4Description: M16A Package Page; ComponentLink4URL: http://www.national.com/packaging/folders/m16a.html
footprint M16A_N (SOIC, 16-Leads, Body 9.9x3.9mm, Pitch 1.27mm, IPC Medium Density)
footprint M16A_L (SOIC, 16-Leads, Body 9.9x3.9mm, Pitch 1.27mm, IPC High Density)
footprint M16A_M (SOIC, 16-Leads, Body 9.9x3.9mm, Pitch 1.27mm, IPC Low Density)
pins: 1 GND (power), 2 NC, 3 OUT (power), 4 SNS (in), 5 ~{SD} (in), 6 ~{ERR} (oc), 7 NC, 8 GND (power), 9 GND (power), 10 NC, 11 NC, 12 REF (in), 13 V TAP, 14 FB (in), 15 IN (power), 16 GND (power)

## LP2952IM
designator U?
Adjustable Micropower Low-Dropout Voltage Regulator, 16-pin Narrow SOIC; PartNumber: LP2952IM; Manufacturer: National Semiconductor; PackageTopMarking: NSUZXYTTE#*LP2952IM; PowerWise: N; CompType: LDO IC; High-Reliability: Y; DatasheetVersion: Mar-2005; PackageVersion: revJ, Aug-1995; PackageReference: M16A; PackageDescription: Molded Package, SO, .150in Wide, 16 Lead; RoHS: N; PinCount: 16; Code_JEDEC: MS-012-AC; Code_IPC: SOIC127P600-16; ComponentLink1Description: Manufacturer URL; ComponentLink1URL: http://www.national.com/; ComponentLink2Description: LP2952 Datasheet; ComponentLink2URL: http://www.national.com/ds/LP/LP2952.pdf; ComponentLink3Description: LP2952 Web Page; ComponentLink3URL: http://www.national.com/pf/LP/LP2952.html; ComponentLink4Description: M16A Package Page; ComponentLink4URL: http://www.national.com/packaging/folders/m16a.html
footprint M16A_N (SOIC, 16-Leads, Body 9.9x3.9mm, Pitch 1.27mm, IPC Medium Density)
footprint M16A_L (SOIC, 16-Leads, Body 9.9x3.9mm, Pitch 1.27mm, IPC High Density)
footprint M16A_M (SOIC, 16-Leads, Body 9.9x3.9mm, Pitch 1.27mm, IPC Low Density)
pins: 1 GND (power), 2 NC, 3 OUT (power), 4 SNS (in), 5 ~{SD} (in), 6 ~{ERR} (oc), 7 NC, 8 GND (power), 9 GND (power), 10 NC, 11 NC, 12 REF (in), 13 V TAP, 14 FB (in), 15 IN (power), 16 GND (power)

## LP2952IM/NOPB
designator U?
Adjustable Micropower Low-Dropout Voltage Regulator, 16-pin Narrow SOIC, Pb-Free; PartNumber: LP2952IM/NOPB; Manufacturer: National Semiconductor; PackageTopMarking: NSUZXYTTE#*LP2952IM; PowerWise: N; CompType: LDO IC; High-Reliability: Y; DatasheetVersion: Mar-2005; PackageVersion: revJ, Aug-1995; PackageReference: M16A; PackageDescription: Molded Package, SO, .150in Wide, 16 Lead; RoHS: Y; PinCount: 16; Code_JEDEC: MS-012-AC; Code_IPC: SOIC127P600-16; ComponentLink1Description: Manufacturer URL; ComponentLink1URL: http://www.national.com/; ComponentLink2Description: LP2952 Datasheet; ComponentLink2URL: http://www.national.com/ds/LP/LP2952.pdf; ComponentLink3Description: LP2952 Web Page; ComponentLink3URL: http://www.national.com/pf/LP/LP2952.html; ComponentLink4Description: M16A Package Page; ComponentLink4URL: http://www.national.com/packaging/folders/m16a.html
footprint M16A_N (SOIC, 16-Leads, Body 9.9x3.9mm, Pitch 1.27mm, IPC Medium Density)
footprint M16A_L (SOIC, 16-Leads, Body 9.9x3.9mm, Pitch 1.27mm, IPC High Density)
footprint M16A_M (SOIC, 16-Leads, Body 9.9x3.9mm, Pitch 1.27mm, IPC Low Density)
pins: 1 GND (power), 2 NC, 3 OUT (power), 4 SNS (in), 5 ~{SD} (in), 6 ~{ERR} (oc), 7 NC, 8 GND (power), 9 GND (power), 10 NC, 11 NC, 12 REF (in), 13 V TAP, 14 FB (in), 15 IN (power), 16 GND (power)

## LP2952IMX
designator U?
Adjustable Micropower Low-Dropout Voltage Regulator, 16-pin Narrow SOIC; PartNumber: LP2952IMX; Manufacturer: National Semiconductor; PackageTopMarking: NSUZXYTTE#*LP2952IM; PowerWise: N; CompType: LDO IC; High-Reliability: Y; DatasheetVersion: Mar-2005; PackageVersion: revJ, Aug-1995; PackageReference: M16A; PackageDescription: Molded Package, SO, .150in Wide, 16 Lead; RoHS: N; PinCount: 16; Code_JEDEC: MS-012-AC; Code_IPC: SOIC127P600-16; ComponentLink1Description: Manufacturer URL; ComponentLink1URL: http://www.national.com/; ComponentLink2Description: LP2952 Datasheet; ComponentLink2URL: http://www.national.com/ds/LP/LP2952.pdf; ComponentLink3Description: LP2952 Web Page; ComponentLink3URL: http://www.national.com/pf/LP/LP2952.html; ComponentLink4Description: M16A Package Page; ComponentLink4URL: http://www.national.com/packaging/folders/m16a.html
footprint M16A_N (SOIC, 16-Leads, Body 9.9x3.9mm, Pitch 1.27mm, IPC Medium Density)
footprint M16A_L (SOIC, 16-Leads, Body 9.9x3.9mm, Pitch 1.27mm, IPC High Density)
footprint M16A_M (SOIC, 16-Leads, Body 9.9x3.9mm, Pitch 1.27mm, IPC Low Density)
pins: 1 GND (power), 2 NC, 3 OUT (power), 4 SNS (in), 5 ~{SD} (in), 6 ~{ERR} (oc), 7 NC, 8 GND (power), 9 GND (power), 10 NC, 11 NC, 12 REF (in), 13 V TAP, 14 FB (in), 15 IN (power), 16 GND (power)

## LP2952IMX-3.3
designator U?
Adjustable Micropower Low-Dropout Voltage Regulator, 16-pin Narrow SOIC; PartNumber: LP2952IMX-3.3; Manufacturer: National Semiconductor; PackageTopMarking: NSUZXYTTE#*LP2952IM*-3.3; PowerWise: N; CompType: LDO IC; High-Reliability: Y; DatasheetVersion: Mar-2005; PackageVersion: revJ, Aug-1995; PackageReference: M16A; PackageDescription: Molded Package, SO, .150in Wide, 16 Lead; RoHS: N; PinCount: 16; Code_JEDEC: MS-012-AC; Code_IPC: SOIC127P600-16; ComponentLink1Description: Manufacturer URL; ComponentLink1URL: http://www.national.com/; ComponentLink2Description: LP2952 Datasheet; ComponentLink2URL: http://www.national.com/ds/LP/LP2952.pdf; ComponentLink3Description: LP2952 Web Page; ComponentLink3URL: http://www.national.com/pf/LP/LP2952.html; ComponentLink4Description: M16A Package Page; ComponentLink4URL: http://www.national.com/packaging/folders/m16a.html
footprint M16A_N (SOIC, 16-Leads, Body 9.9x3.9mm, Pitch 1.27mm, IPC Medium Density)
footprint M16A_L (SOIC, 16-Leads, Body 9.9x3.9mm, Pitch 1.27mm, IPC High Density)
footprint M16A_M (SOIC, 16-Leads, Body 9.9x3.9mm, Pitch 1.27mm, IPC Low Density)
pins: 1 GND (power), 2 NC, 3 OUT (power), 4 SNS (in), 5 ~{SD} (in), 6 ~{ERR} (oc), 7 NC, 8 GND (power), 9 GND (power), 10 NC, 11 NC, 12 REF (in), 13 V TAP, 14 FB (in), 15 IN (power), 16 GND (power)

## LP2953AIM
designator U?
Adjustable Micropower Low-Dropout Voltage Regulator, 16-pin Narrow SOIC; PartNumber: LP2953AIM; Manufacturer: National Semiconductor; PackageTopMarking: NSUZXYTTE#*LP2953AIM; PowerWise: N; CompType: LDO IC; High-Reliability: Y; DatasheetVersion: Mar-2005; PackageVersion: revJ, Aug-1995; PackageReference: M16A; PackageDescription: Molded Package, SO, .150in Wide, 16 Lead; RoHS: N; PinCount: 16; Code_JEDEC: MS-012-AC; Code_IPC: SOIC127P600-16; ComponentLink1Description: Manufacturer URL; ComponentLink1URL: http://www.national.com/; ComponentLink2Description: LP2953A Datasheet; ComponentLink2URL: http://www.national.com/ds/LP/LP2953.pdf; ComponentLink3Description: LP2953A Web Page; ComponentLink3URL: http://www.national.com/pf/LP/LP2953A.html; ComponentLink4Description: M16A Package Page; ComponentLink4URL: http://www.national.com/packaging/folders/m16a.html
footprint M16A_N (SOIC, 16-Leads, Body 9.9x3.9mm, Pitch 1.27mm, IPC Medium Density)
footprint M16A_L (SOIC, 16-Leads, Body 9.9x3.9mm, Pitch 1.27mm, IPC High Density)
footprint M16A_M (SOIC, 16-Leads, Body 9.9x3.9mm, Pitch 1.27mm, IPC Low Density)
pins: 1 GND (power), 2 NC, 3 OUT (power), 4 SNS (in), 5 ~{SD} (in), 6 ~{ERR} (oc), 7 NC, 8 GND (power), 9 GND, 10 COMP OUT (oc), 11 COMP IN (in), 12 REF (in), 13 V TAP, 14 FB (in), 15 IN (power), 16 GND (power)

## LP2953AIMX
designator U?
Adjustable Micropower Low-Dropout Voltage Regulator, 16-pin Narrow SOIC; PartNumber: LP2953AIMX; Manufacturer: National Semiconductor; PackageTopMarking: NSUZXYTTE#*LP2953AIM; PowerWise: N; CompType: LDO IC; High-Reliability: Y; DatasheetVersion: Mar-2005; PackageVersion: revJ, Aug-1995; PackageReference: M16A; PackageDescription: Molded Package, SO, .150in Wide, 16 Lead; RoHS: N; PinCount: 16; Code_JEDEC: MS-012-AC; Code_IPC: SOIC127P600-16; ComponentLink1Description: Manufacturer URL; ComponentLink1URL: http://www.national.com/; ComponentLink2Description: LP2953A Datasheet; ComponentLink2URL: http://www.national.com/ds/LP/LP2953.pdf; ComponentLink3Description: LP2953A Web Page; ComponentLink3URL: http://www.national.com/pf/LP/LP2953A.html; ComponentLink4Description: M16A Package Page; ComponentLink4URL: http://www.national.com/packaging/folders/m16a.html
footprint M16A_N (SOIC, 16-Leads, Body 9.9x3.9mm, Pitch 1.27mm, IPC Medium Density)
footprint M16A_L (SOIC, 16-Leads, Body 9.9x3.9mm, Pitch 1.27mm, IPC High Density)
footprint M16A_M (SOIC, 16-Leads, Body 9.9x3.9mm, Pitch 1.27mm, IPC Low Density)
pins: 1 GND (power), 2 NC, 3 OUT (power), 4 SNS (in), 5 ~{SD} (in), 6 ~{ERR} (oc), 7 NC, 8 GND (power), 9 GND, 10 COMP OUT (oc), 11 COMP IN (in), 12 REF (in), 13 V TAP, 14 FB (in), 15 IN (power), 16 GND (power)

## LP2953AMWG-QMLV
designator U?
Adjustable Micropower Low-Dropout Voltage Regulator, 16-pin CerPACK; PartNumber: LP2953AMWG-QMLV; Manufacturer: National Semiconductor; PackageTopMarking: NSZSSXXYYA*LP2953AMWG-*QV Q 5962-*9233601VXA; PowerWise: N; CompType: LDO IC; High-Reliability: Y; DatasheetVersion: Mar-2005; PackageVersion: revE, Jul-2007; PackageReference: WG16A; PackageDescription: Cerpack, .390 x .250 x .070in, 16 Lead, .050in Pitch, Gull Wing; RoHS: N; PinCount: 16; ComponentLink1Description: Manufacturer URL; ComponentLink1URL: http://www.national.com/; ComponentLink2Description: LP2953A Datasheet; ComponentLink2URL: http://www.national.com/ds/LP/LP2953QML.pdf; ComponentLink3Description: LP2953A Web Page; ComponentLink3URL: http://www.national.com/pf/LP/LP2953A.html; ComponentLink4Description: WG16A Package Page; ComponentLink4URL: http://www.national.com/packaging/folders/wg16a.html
footprint WG16A_N (CERPACK, 16-Leads, Body 9.9x6.5mm, Pitch 1.27mm, IPC Medium Density)
footprint WG16A_L (CERPACK, 16-Leads, Body 9.9x6.5mm, Pitch 1.27mm, IPC High Density)
footprint WG16A_M (CERPACK, 16-Leads, Body 9.9x6.5mm, Pitch 1.27mm, IPC Low Density)
pins: 1 GND (power), 2 NC, 3 OUT (power), 4 SNS (in), 5 ~{SD} (in), 6 ~{ERR} (oc), 7 NC, 8 GND (power), 9 GND, 10 COMP OUT (oc), 11 COMP IN (in), 12 REF (in), 13 V TAP, 14 FB (in), 15 IN (power), 16 GND (power)

## LP2953AMWG/883
designator U?
Adjustable Micropower Low-Dropout Voltage Regulator, 16-pin CerPACK; PartNumber: LP2953AMWG/883; Manufacturer: National Semiconductor; PackageTopMarking: NSZSSXXYYA*5962-9233601*QXA Q LP2953*AMWG/883; PowerWise: N; CompType: LDO IC; High-Reliability: Y; DatasheetVersion: Mar-2005; PackageVersion: revE, Jul-2007; PackageReference: WG16A; PackageDescription: Cerpack, .390 x .250 x .070in, 16 Lead, .050in Pitch, Gull Wing; RoHS: N; PinCount: 16; ComponentLink1Description: Manufacturer URL; ComponentLink1URL: http://www.national.com/; ComponentLink2Description: LP2953A Datasheet; ComponentLink2URL: http://www.national.com/ds/LP/LP2953QML.pdf; ComponentLink3Description: LP2953A Web Page; ComponentLink3URL: http://www.national.com/pf/LP/LP2953A.html; ComponentLink4Description: WG16A Package Page; ComponentLink4URL: http://www.national.com/packaging/folders/wg16a.html
footprint WG16A_N (CERPACK, 16-Leads, Body 9.9x6.5mm, Pitch 1.27mm, IPC Medium Density)
footprint WG16A_L (CERPACK, 16-Leads, Body 9.9x6.5mm, Pitch 1.27mm, IPC High Density)
footprint WG16A_M (CERPACK, 16-Leads, Body 9.9x6.5mm, Pitch 1.27mm, IPC Low Density)
pins: 1 GND (power), 2 NC, 3 OUT (power), 4 SNS (in), 5 ~{SD} (in), 6 ~{ERR} (oc), 7 NC, 8 GND (power), 9 GND, 10 COMP OUT (oc), 11 COMP IN (in), 12 REF (in), 13 V TAP, 14 FB (in), 15 IN (power), 16 GND (power)

## LP2953IM
designator U?
Adjustable Micropower Low-Dropout Voltage Regulator, 16-pin Narrow SOIC; PartNumber: LP2953IM; Manufacturer: National Semiconductor; PackageTopMarking: NSUZXYTTE#*LP2953IM; PowerWise: N; CompType: LDO IC; High-Reliability: Y; DatasheetVersion: Mar-2005; PackageVersion: revJ, Aug-1995; PackageReference: M16A; PackageDescription: Molded Package, SO, .150in Wide, 16 Lead; RoHS: N; PinCount: 16; Code_JEDEC: MS-012-AC; Code_IPC: SOIC127P600-16; ComponentLink1Description: Manufacturer URL; ComponentLink1URL: http://www.national.com/; ComponentLink2Description: LP2953 Datasheet; ComponentLink2URL: http://www.national.com/ds/LP/LP2953.pdf; ComponentLink3Description: LP2953 Web Page; ComponentLink3URL: http://www.national.com/pf/LP/LP2953.html; ComponentLink4Description: M16A Package Page; ComponentLink4URL: http://www.national.com/packaging/folders/m16a.html
footprint M16A_N (SOIC, 16-Leads, Body 9.9x3.9mm, Pitch 1.27mm, IPC Medium Density)
footprint M16A_L (SOIC, 16-Leads, Body 9.9x3.9mm, Pitch 1.27mm, IPC High Density)
footprint M16A_M (SOIC, 16-Leads, Body 9.9x3.9mm, Pitch 1.27mm, IPC Low Density)
pins: 1 GND (power), 2 NC, 3 OUT (power), 4 SNS (in), 5 ~{SD} (in), 6 ~{ERR} (oc), 7 NC, 8 GND (power), 9 GND, 10 COMP OUT (oc), 11 COMP IN (in), 12 REF (in), 13 V TAP, 14 FB (in), 15 IN (power), 16 GND (power)

## LP2953IM/NOPB
designator U?
Adjustable Micropower Low-Dropout Voltage Regulator, 16-pin Narrow SOIC, Pb-Free; PartNumber: LP2953IM/NOPB; Manufacturer: National Semiconductor; PackageTopMarking: NSUZXYTTE#*LP2953IM; PowerWise: N; CompType: LDO IC; High-Reliability: Y; DatasheetVersion: Mar-2005; PackageVersion: revJ, Aug-1995; PackageReference: M16A; PackageDescription: Molded Package, SO, .150in Wide, 16 Lead; RoHS: Y; PinCount: 16; Code_JEDEC: MS-012-AC; Code_IPC: SOIC127P600-16; ComponentLink1Description: Manufacturer URL; ComponentLink1URL: http://www.national.com/; ComponentLink2Description: LP2953 Datasheet; ComponentLink2URL: http://www.national.com/ds/LP/LP2953.pdf; ComponentLink3Description: LP2953 Web Page; ComponentLink3URL: http://www.national.com/pf/LP/LP2953.html; ComponentLink4Description: M16A Package Page; ComponentLink4URL: http://www.national.com/packaging/folders/m16a.html
footprint M16A_N (SOIC, 16-Leads, Body 9.9x3.9mm, Pitch 1.27mm, IPC Medium Density)
footprint M16A_L (SOIC, 16-Leads, Body 9.9x3.9mm, Pitch 1.27mm, IPC High Density)
footprint M16A_M (SOIC, 16-Leads, Body 9.9x3.9mm, Pitch 1.27mm, IPC Low Density)
pins: 1 GND (power), 2 NC, 3 OUT (power), 4 SNS (in), 5 ~{SD} (in), 6 ~{ERR} (oc), 7 NC, 8 GND (power), 9 GND, 10 COMP OUT (oc), 11 COMP IN (in), 12 REF (in), 13 V TAP, 14 FB (in), 15 IN (power), 16 GND (power)

## LP2953IMX
designator U?
Adjustable Micropower Low-Dropout Voltage Regulator, 16-pin Narrow SOIC; PartNumber: LP2953IMX; Manufacturer: National Semiconductor; PackageTopMarking: NSUZXYTTE#*LP2953IM; PowerWise: N; CompType: LDO IC; High-Reliability: Y; DatasheetVersion: Mar-2005; PackageVersion: revJ, Aug-1995; PackageReference: M16A; PackageDescription: Molded Package, SO, .150in Wide, 16 Lead; RoHS: N; PinCount: 16; Code_JEDEC: MS-012-AC; Code_IPC: SOIC127P600-16; ComponentLink1Description: Manufacturer URL; ComponentLink1URL: http://www.national.com/; ComponentLink2Description: LP2953 Datasheet; ComponentLink2URL: http://www.national.com/ds/LP/LP2953.pdf; ComponentLink3Description: LP2953 Web Page; ComponentLink3URL: http://www.national.com/pf/LP/LP2953.html; ComponentLink4Description: M16A Package Page; ComponentLink4URL: http://www.national.com/packaging/folders/m16a.html
footprint M16A_N (SOIC, 16-Leads, Body 9.9x3.9mm, Pitch 1.27mm, IPC Medium Density)
footprint M16A_L (SOIC, 16-Leads, Body 9.9x3.9mm, Pitch 1.27mm, IPC High Density)
footprint M16A_M (SOIC, 16-Leads, Body 9.9x3.9mm, Pitch 1.27mm, IPC Low Density)
pins: 1 GND (power), 2 NC, 3 OUT (power), 4 SNS (in), 5 ~{SD} (in), 6 ~{ERR} (oc), 7 NC, 8 GND (power), 9 GND, 10 COMP OUT (oc), 11 COMP IN (in), 12 REF (in), 13 V TAP, 14 FB (in), 15 IN (power), 16 GND (power)